# Altium schematic symbol library 0ZCF0250FF2C.SchLib: 1 symbol
Pins are listed as number, name and electrical type; pins without a type are passive.

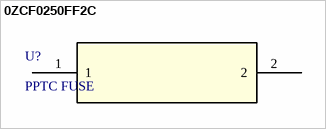
[diagram p0: symbol 0ZCF0250FF2C]

## 0ZCF0250FF2C
designator U?, comment PPTC FUSE
Resettable Fuses - PPTC; Manufacturer_Part_Number: 0ZCF0250FF2C; Vendor: Belfuse; Built_By: EMA_UL_Team; C: Copyright (C) 2016 Accelerated Designs. All rights reserved; RefDes: RefDes; Type: DEV; Value: Value
footprint 0ZCF
pins: 1, 2